# Altium footprint library PiRA-RTC-HAT-PcbLib.PcbLib: 11 footprints
Each footprint in its own frame and in the unit in brackets; x right, y up, seen from the top. Pads: shape width x height; smd on the part's side, far side on the other; paste and mask are expansions set on the pad; w line width, h text height; cw(c..) or ccw(c..) is an arc to the next point about the centre after c.
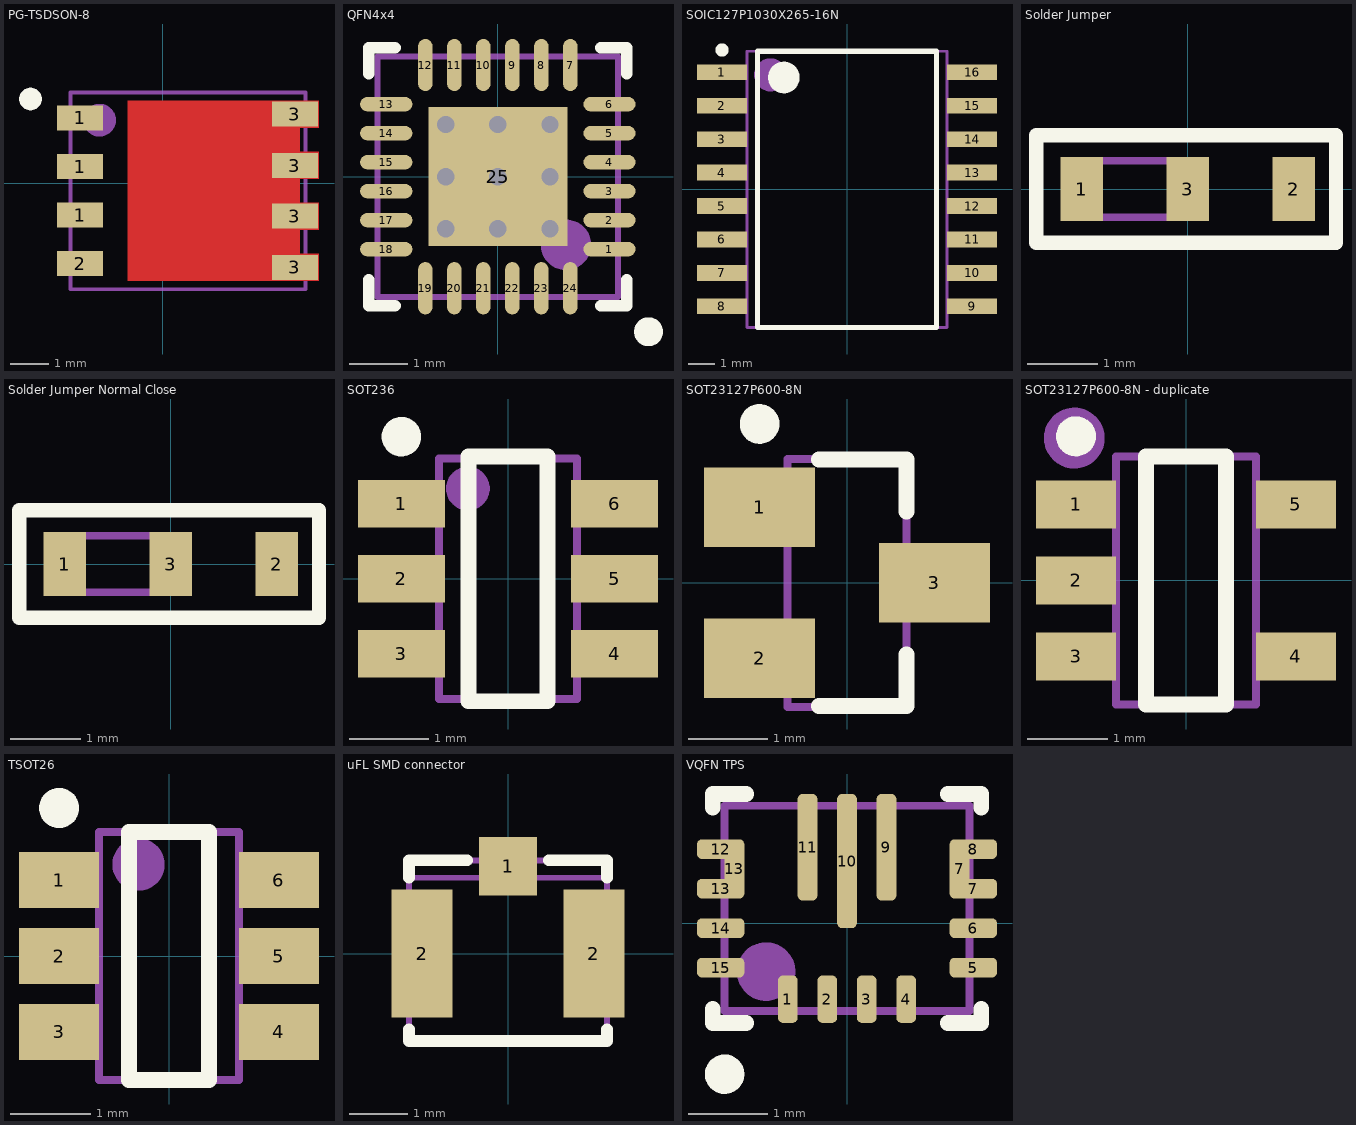
[diagram p0: the footprints below, top view; thin cyan lines are the x and y axes]

## PG-TSDSON-8 [mm]
pads (9):
  rect 1.2x0.65 smd: 1(-2.159,-0.832) 1(-2.159,0.438) 1(-2.159,1.708) 2(-2.159,-2.102) 3(3.46,-2.203) 3(3.46,-0.857) 3(3.46,0.464) 3(3.46,1.81)
  round 0.6 on Top Overlay: ""(-3.459,2.203)
Top Layer:
  region: 3.591,-0.512 3.591,-1.212 4.091,-1.212 4.091,-0.512
  region: 3.591,0.818 3.591,0.118 4.091,0.118 4.091,0.818
  region: 3.591,-1.847 3.591,-2.547 4.091,-2.547 4.091,-1.847
  region: 3.591,2.153 3.591,1.453 4.091,1.453 4.091,2.153
  region: 3.591,2.153 -0.909,2.153 -0.909,-2.547 3.591,-2.547
Mechanical 29:
  circle w0.5: c-1.651,1.651 r0.18
  lines w0.1: -2.409,-2.772 3.741,-2.772 3.741,2.378 -2.409,2.378 -2.409,-2.772
  text ".Designator" at -0.889,-0.635 h0.9
3D body "User Library-TDSON-8.STEP": height 1.1, standoff -0.01, extent -2.485,-2.772 3.865,2.378

## QFN4x4 [mm] "Name Type Description Vault Item Revision Revision Status    QFN4x4 Footprint QFN, 24-Leads, Body 4,00x4,00mm, Pitch 0,50mm, Thermal Pad 2,60x2,60mm, IPC Medium Density"
pads (25):
  oval 0.9x0.25 smd: 1(1.925,-1.25) 2(1.925,-0.75) 3(1.925,-0.25) 4(1.925,0.25) 5(1.925,0.75) 6(1.925,1.25) 13(-1.925,1.25) 14(-1.925,0.75) 15(-1.925,0.25) 16(-1.925,-0.25) 17(-1.925,-0.75) 18(-1.925,-1.25)
  oval 0.25x0.9 smd: 7(1.25,1.925) 8(0.75,1.925) 9(0.25,1.925) 10(-0.25,1.925) 11(-0.75,1.925) 12(-1.25,1.925) 19(-1.25,-1.925) 20(-0.75,-1.925) 21(-0.25,-1.925) 22(0.25,-1.925) 23(0.75,-1.925) 24(1.25,-1.925)
  rect 2.4x2.4 smd: 25(0,0)
via -0.9,0 diameter 0.5 hole 0.3
via -0.9,0.9 diameter 0.5 hole 0.3
via 0.9,0 diameter 0.5 hole 0.3
via 0.9,0.9 diameter 0.5 hole 0.3
via 0,-0.9 diameter 0.5 hole 0.3
via 0,0.9 diameter 0.5 hole 0.3
via 0,0 diameter 0.5 hole 0.3
via -0.9,-0.9 diameter 0.5 hole 0.3
via 0.9,-0.9 diameter 0.5 hole 0.3
Top Overlay:
  circle w0.25: c2.6,-2.675 r0.125
  lines w0.2: -2.225,-1.775 -2.225,-2.225 -1.775,-2.225 ; -2.225,1.775 -2.225,2.225 -1.775,2.225 ; 1.775,-2.225 2.225,-2.225 2.225,-1.775 ; 1.775,2.225 2.225,2.225 2.225,1.775
Mechanical 29:
  circle w0.5: c1.175,-1.175 r0.185
  lines w0.1: -2.075,-2.075 -2.075,2.075 2.075,2.075 2.075,-2.075 -2.075,-2.075
  text ".Designator" at -1.397,-0.254 h0.8
3D body "QFN4x4.step": height 1, standoff 0, extent -2.085,-2.085 2.085,2.085

## SOIC127P1030X265-16N [mm] "SOIC, 16-Leads, Body 10.30x7.50mm, Pitch 1.27mm, IPC Medium Density"
height 2.65
pads (16):
  rect 1.9x0.6 smd: 1(-4.75,4.445) 2(-4.75,3.175) 3(-4.75,1.905) 4(-4.75,0.635) 5(-4.75,-0.635) 6(-4.75,-1.905) 7(-4.75,-3.175) 8(-4.75,-4.445) 9(4.75,-4.445) 10(4.75,-3.175) 11(4.75,-1.905) 12(4.75,-0.635) 13(4.75,0.635) 14(4.75,1.905) 15(4.75,3.175) 16(4.75,4.445)
Top Overlay:
  circle w0.25: c-4.75,5.295 r0.125
  circle w0.6: c-2.4,4.25 r0.3
  lines w0.2: -3.4,-5.25 -3.4,5.25 3.4,5.25 3.4,-5.25 -3.4,-5.25
Mechanical 29:
  circle w0.7: c-2.9,4.35 r0.277
  lines w0.1: -3.8,-5.25 -3.8,5.25 3.8,5.25 3.8,-5.25 -3.8,-5.25
  text ".Designator" at -1.778,0 h0.8
3D body "SOIC127P1030X265-16N.step": height 2.65, standoff 0, extent -5.162,-5.25 5.163,5.25

## Solder Jumper [mm]
pads (3):
  rect 0.6x0.9 smd: 1(-1.5,0) 2(1.5,0) 3(0,0)
Top Overlay:
  lines w0.2: 1.8,0.762 2.1,0.762 2.1,-0.762 0.647,-0.762 -2.147,-0.762 -2.147,0.762 2.044,0.762
Mechanical 29:
  lines w0.1: -2.15,-0.75 2.1,-0.75 2.1,0.75 -2.15,0.75 -2.15,-0.75 ; -1.6,-0.4 -1.6,0.4 0.1,0.4 0.1,-0.4 -1.6,-0.4
  text ".Designator" at 0.3,-0.3 h0.6
3D body "R0603.step": height 0.8, standoff 0, extent -1.55,-0.42 0.05,0.42

## Solder Jumper Normal Close [mm]
pads (3):
  rect 0.6x0.9 smd: 1(-1.5,0) 2(1.5,0) 3(0,0)
Top Overlay:
  lines w0.2: 1.8,0.762 2.1,0.762 2.1,-0.762 0.647,-0.762 -2.147,-0.762 -2.147,0.762 2.044,0.762
Mechanical 29:
  lines w0.1: -2.15,-0.75 2.1,-0.75 2.1,0.75 -2.15,0.75 -2.15,-0.75 ; -1.6,-0.4 0.1,-0.4 0.1,0.4 -1.6,0.4 -1.6,-0.4
  text ".Designator" at 0.3,-0.3 h0.6
3D body "R0603.step": height 0.8, standoff 0, extent -1.55,-0.42 0.05,0.42

## SOT236 [mm]
height 1.1
pads (6):
  rect 1.1x0.6 smd: 1(-1.35,0.95) 2(-1.35,0) 3(-1.35,-0.95) 4(1.35,-0.95) 5(1.35,0) 6(1.35,0.95)
Top Overlay:
  circle w0.25: c-1.35,1.8 r0.125
  lines w0.2: -0.5,-1.55 -0.5,1.55 0.5,1.55 0.5,-1.55 -0.5,-1.55
Mechanical 29:
  circle w0.3: c-0.508,1.143 r0.127
  lines w0.1: -0.875,-1.525 0.875,-1.525 0.875,1.525 -0.875,1.525 -0.875,-1.525
  text ".Designator" at 0.508,-1.143 h0.8
3D body "TSOT26.step": height 1, standoff 0, extent -1.5,-1.55 1.5,1.55

## SOT23127P600-8N [mm]
height 1.2
pads (3):
  rect 1.4x1 smd: 1(-1.1,0.95) 2(-1.1,-0.95) 3(1.1,0)
Top Overlay:
  circle w0.25: c-1.1,2 r0.125
  lines w0.2: -0.35,-1.55 0.75,-1.55 0.75,-0.9 ; -0.35,1.55 0.75,1.55 0.75,0.9
Mechanical 29:
  lines w0.1: -0.75,-1.56 -0.75,1.56 0.75,1.56 0.75,-1.56 -0.75,-1.56
  text ".Designator" at 0.381,-1.143 h0.8
3D body "SOT23127P600-8N.step": height 1.2, standoff 0, extent -1.35,-1.56 1.35,1.56

## SOT23127P600-8N - duplicate [mm]
height 1.45
pads (5):
  rect 1x0.6 smd: 1(-1.375,0.95) 2(-1.375,0) 3(-1.375,-0.95) 4(1.375,-0.95) 5(1.375,0.95)
Top Overlay:
  circle w0.25: c-1.375,1.8 r0.125
  lines w0.2: -0.5,-1.55 -0.5,1.55 0.5,1.55 0.5,-1.55 -0.5,-1.55
Mechanical 29:
  circle w0.4: c-1.397,1.778 r0.18
  lines w0.1: -0.875,-1.55 0.875,-1.55 0.875,1.55 -0.875,1.55 -0.875,-1.55
  text ".Designator" at 0.508,-1.27 h0.9
3D body "SOT23127P600-8N.step": height 1.45, standoff 0, extent -1.5,-1.55 1.5,1.55

## TSOT26 [mm]
height 1
pads (6):
  rect 1x0.7 smd: 1(-1.375,0.95) 2(-1.375,0) 3(-1.375,-0.95) 4(1.375,-0.95) 5(1.375,0) 6(1.375,0.95)
Top Overlay:
  circle w0.25: c-1.375,1.85 r0.125
  lines w0.2: -0.5,-1.55 0.5,-1.55 0.5,1.55 -0.5,1.55 -0.5,-1.55
Mechanical 29:
  circle w0.4: c-0.381,1.143 r0.127
  lines w0.1: -0.875,-1.55 -0.875,1.55 0.875,1.55 0.875,-1.55 -0.875,-1.55
  text ".Designator" at 0.381,-1.397 h0.8
3D body "TSOT26.step": height 1, standoff 0, extent -1.5,-1.55 1.5,1.55

## uFL SMD connector [mm] "uFL SMD connector"
pads (3):
  rect 1x1 smd: 1(0,1.5)
  rect 1.05x2.2 smd: 2(-1.475,0) 2(1.475,0)
Top Overlay:
  lines w0.2: -1.7,-1.3 -1.7,-1.5 1.7,-1.5 1.7,-1.3 ; -1.7,1.3 -1.7,1.6 -0.7,1.6 ; 0.7,1.6 1.7,1.6 1.7,1.3
Mechanical 29:
  lines w0.1: -1.7,1.3 1.7,1.3 ; -1.7,-1.5 -1.7,1.6 1.7,1.6 1.7,-1.5 -1.7,-1.5
  text ".Designator" at -1.1,-0.4 h0.8
3D body "SW3dPS-UFL-R-SMD.STEP": height 1.25, standoff 0, extent -1.7,-1.55 1.7,1.55

## VQFN TPS [mm]
pads (17):
  rrect50% 0.25x0.6 smd: 1(-0.75,-0.962) 2(-0.25,-0.962) 3(0.25,-0.962) 4(0.75,-0.962)
  rrect50% 0.6x0.25 smd: 5(1.6,-0.562) 6(1.6,-0.062) 7(1.6,0.438) 8(1.6,0.938) 12(-1.6,0.938) 13(-1.6,0.438) 14(-1.6,-0.062) 15(-1.6,-0.562)
  rrect50% 0.25x0.7 smd: 7(1.425,0.688) 13(-1.425,0.688)
  rrect50% 0.25x1.35 smd: 9(0.5,0.963) 11(-0.5,0.963)
  rrect50% 0.25x1.7 smd: 10(0,0.788)
Top Overlay:
  circle w0.25: c-1.55,-1.912 r0.125
  lines w0.2: -1.7,-1.087 -1.7,-1.262 -1.275,-1.262 ; -1.7,1.463 -1.7,1.638 -1.275,1.638 ; 1.275,-1.262 1.7,-1.262 1.7,-1.087 ; 1.275,1.638 1.7,1.638 1.7,1.463
Mechanical 29:
  circle w0.5: c-1.025,-0.612 r0.12
  lines w0.1: -1.55,-1.112 1.55,-1.112 1.55,1.488 -1.55,1.488 -1.55,-1.112
  text ".Designator" at -0.889,0 h0.8
3D body "VQFN TPS.step": height 1, standoff 0, extent -1.56,-1.122 1.56,1.498